# EAGLE library part TC647B (library microchip)
PWM FAN SPEED CONTROLLER
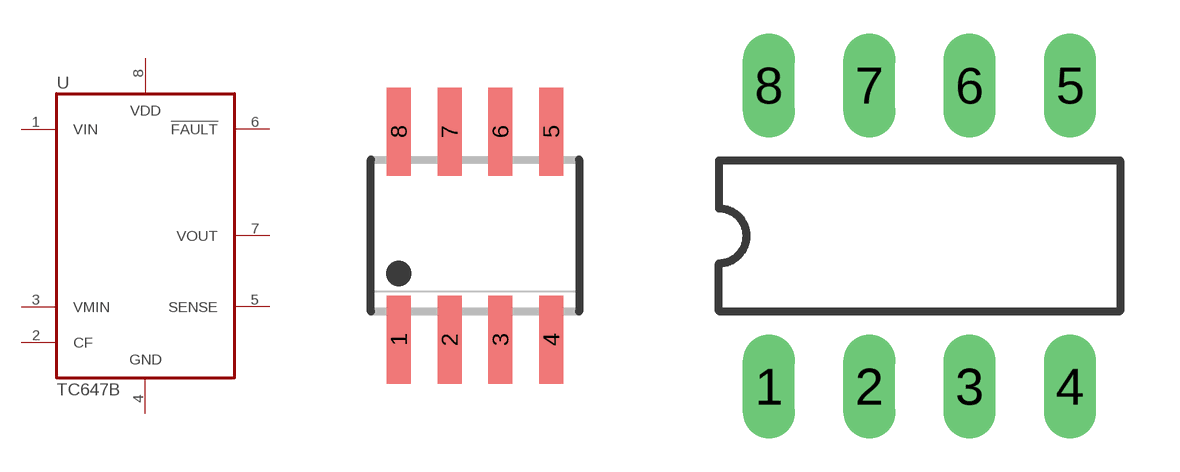
[diagram p142: symbol with the pads of SO08; footprints SO08, DIL08]

Designator prefix U

## TC647BSN  [SO08]
1  VIN  in
2  CF  in
3  VMIN  in
4  GND  pwr
5  SENSE  in
6  !FAULT!  oc
7  VOUT  out
8  VDD  pwr

## TC647BP  [DIL08]
Pads as for SO08

## TC647BMS  [MSOP8]
Pads as for SO08

## Footprint SO08 (pad centres in mm)
SMALL OUTLINE INTEGRATED CIRCUIT body 3.9 mm/JEDEC MS-012AA
smd 0.6 x 2.2: 1 -1.905,-2.6; 2 -0.635,-2.6; 3 0.635,-2.6; 4 1.905,-2.6; 5 1.905,2.6; 6 0.635,2.6; 7 -0.635,2.6; 8 -1.905,2.6

## Footprint DIL08 (pad centres in mm)
Dual In Line Package
drill 0.813 long: 1 -3.81,-3.81; 2 -1.27,-3.81; 3 1.27,-3.81; 4 3.81,-3.81; 5 3.81,3.81; 6 1.27,3.81; 7 -1.27,3.81; 8 -3.81,3.81

## Footprint MSOP8 (pad centres in mm)
Micro Small Outline Package
smd 0.45 x 1.3: 1 -0.975,-2.05; 2 -0.325,-2.05; 3 0.325,-2.05; 4 0.975,-2.05; 5 0.975,2.05; 6 0.325,2.05; 7 -0.325,2.05; 8 -0.975,2.05